# Altium integrated library Linear Technology Power Management Power Control.IntLib: 661 symbols (part 23 of 43)
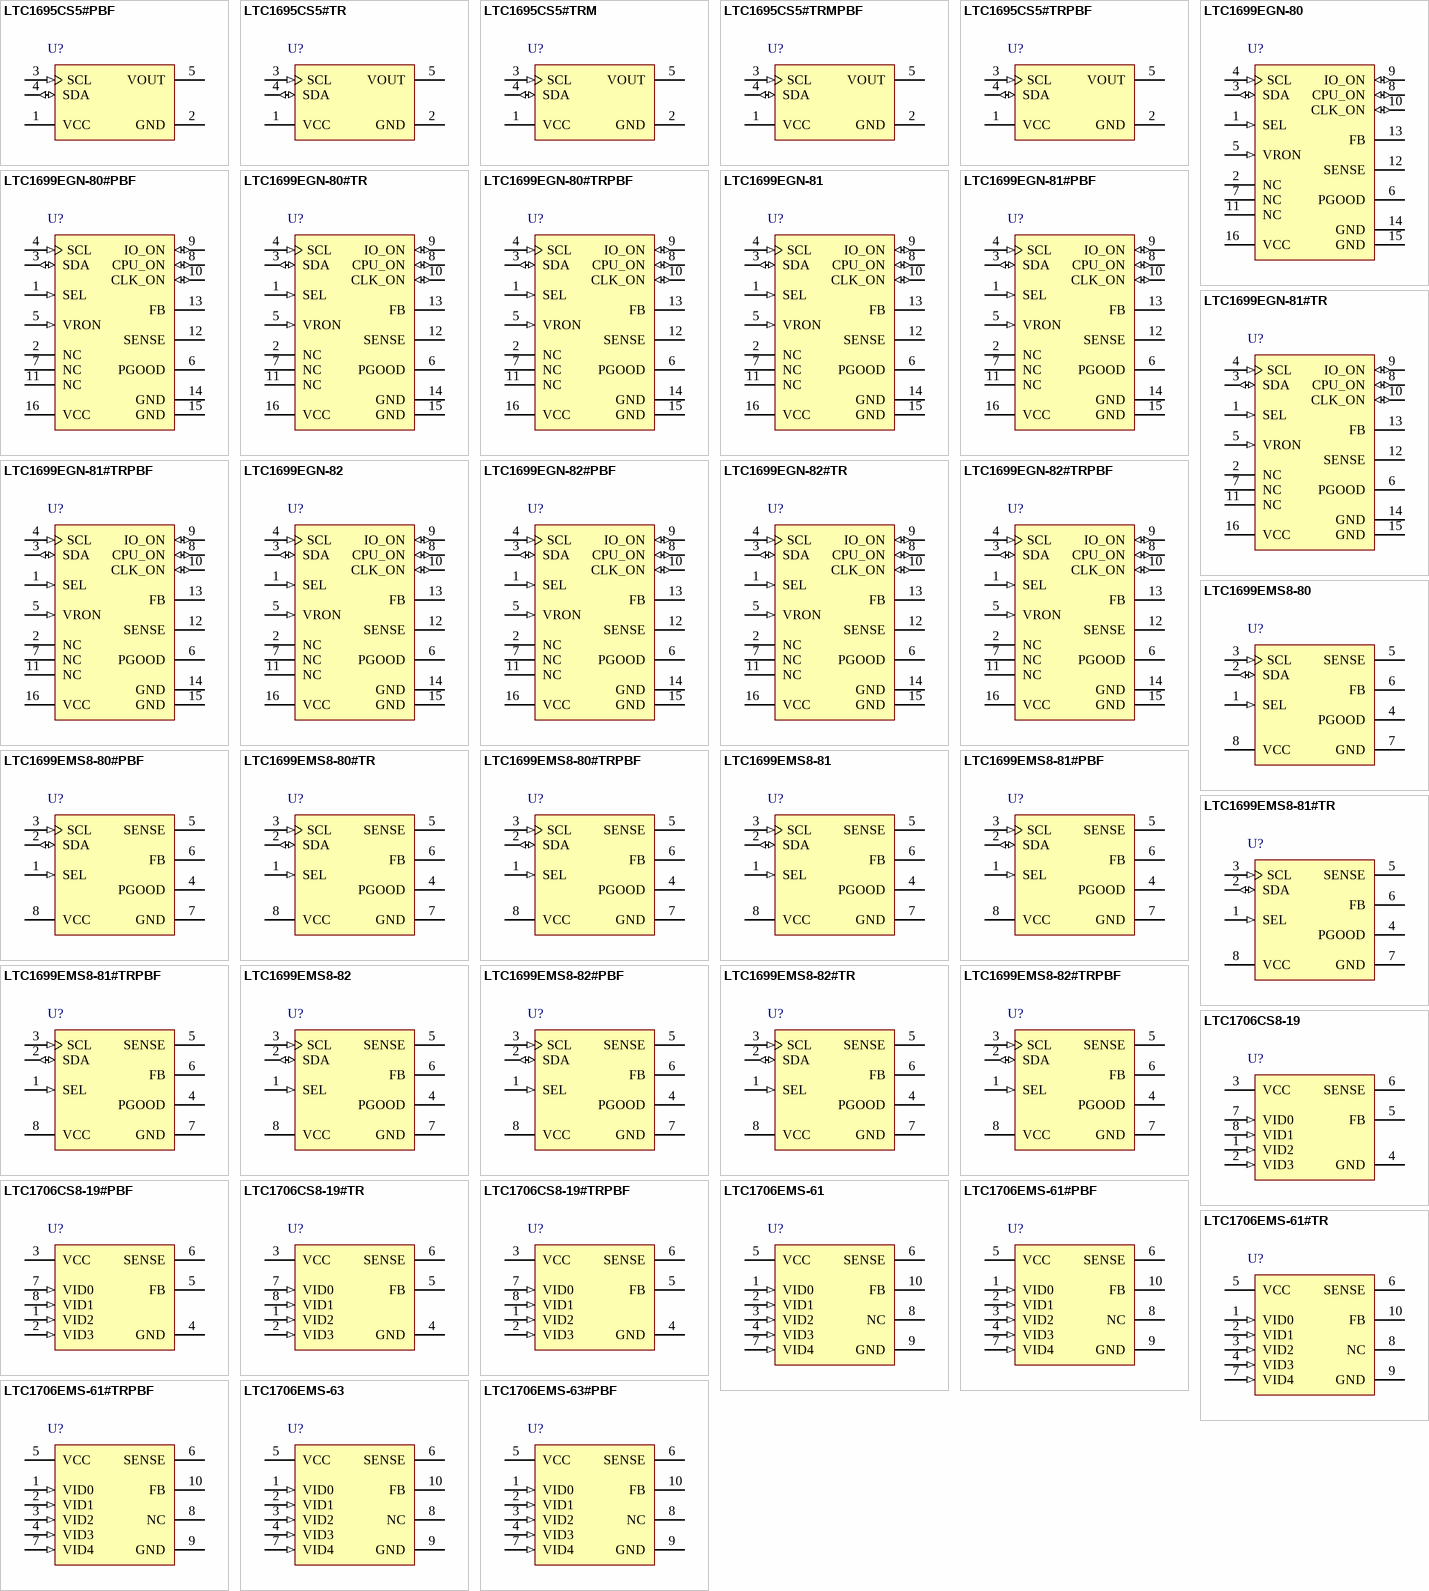
[diagram p41: symbols LTC1695CS5#PBF to LTC1706EMS-63#PBF]

## LTC1699EMS8-80
designator U?
SMBus VID Programmer, 2.7 to 5.5 V Vin, 8-pin SOP (MS8-8), -40 to 85 degC; Manufacturer: Linear Technology; PartNumber: LTC1699EMS8-80; PackageVersion: Rev. G, 03/2012; PackageReference: MS8-8; PackageDescription: 8-Pin Plastic MSOP, Body 3 x 3 mm, Pitch 0.65 mm; Supplier 1: Digi-Key; Supplier Part Number 1: LTC1699EMS8-80-ND; RoHS: FALSE; Mounting Technology: Surface Mount; ComponentLink1Description: Manufacturer URL; ComponentLink1URL: http://www.linear.com/; ComponentLink2Description: Datasheet; ComponentLink2URL: http://cds.linear.com/docs/en/datasheet/1699fs.pdf; ComponentLink3Description: Package Specification; ComponentLink3URL: http://cds.linear.com/docs/en/packaging/05081660_G_MS8.pdf
footprint LT-MS8-8_N (SOP, 8-Leads, Body 3.1x3.1mm, Pitch 0.65mm, IPC Medium Density)
footprint LT-MS8-8_L (SOP, 8-Leads, Body 3.1x3.1mm, Pitch 0.65mm, IPC High Density)
footprint LT-MS8-8_M (SOP, 8-Leads, Body 3.1x3.1mm, Pitch 0.65mm, IPC Low Density)
pins: 1 SEL (in) "Register Select Input. A TTL compatible logic input pin that is used to select 1 of 2 resistor divider settings. SEL selects the setting in Register 0 if pulled low and the setting in Register 1 if pulled high.", 2 SDA (io) "SMBus Data Input/Output. SDA is a high impedance input when address, command or data bits are shifted in. It is an open drain, N-channel output when acknowledging or sending data back to the microprocessor during read-back. (See Datasheet)", 3 SCL (in) "SMBus Clock Input. Data at the SDA pin is latched into the LTC1699 at the rising edge of the clock and is shifted out of the SDA pin at the falling edge of the clock. SCL is a high impedance input pin. It is driven by the (See Datasheet)", 4 PGOOD (hiz) "Power Good Output. This open drain output is pulled low for 50us each time the LTC1699-80, LTC1699-81 or LTC1699-82 turns on the DC/DC converters or SEL is toggled to select a new code. PGOOD may be connected to the FCB (See Datasheet)", 5 SENSE "Sense Input. Upper terminal of the resistor divider that is connected directly to the output voltage being regulated.", 6 FB "Feedback Input. Center tap of the divider that is connected to the feedback pin of an LTC 0.8V referenced DC/DC converter.", 7 GND (power) "Ground. Connect to regulator signal ground.", 8 VCC (power) "Positive Supply. 2.7V <= VCC <= 5.5V. Bypass this pin to ground with a 0.1uF ceramic capacitor."

## LTC1699EMS8-80#PBF
designator U?
SMBus VID Programmer, 2.7 to 5.5 V Vin, 8-pin SOP (MS8-8), -40 to 85 degC, Pb-Free; Manufacturer: Linear Technology; PartNumber: LTC1699EMS8-80#PBF; PackageVersion: Rev. G, 03/2012; PackageReference: MS8-8; PackageDescription: 8-Pin Plastic MSOP, Body 3 x 3 mm, Pitch 0.65 mm; Supplier 1: Digi-Key; Supplier Part Number 1: LTC1699EMS8-80#PBF-ND; RoHS: TRUE; Mounting Technology: Surface Mount; ComponentLink1Description: Manufacturer URL; ComponentLink1URL: http://www.linear.com/; ComponentLink2Description: Datasheet; ComponentLink2URL: http://cds.linear.com/docs/en/datasheet/1699fs.pdf; ComponentLink3Description: Package Specification; ComponentLink3URL: http://cds.linear.com/docs/en/packaging/05081660_G_MS8.pdf
footprint LT-MS8-8_N (SOP, 8-Leads, Body 3.1x3.1mm, Pitch 0.65mm, IPC Medium Density)
footprint LT-MS8-8_L (SOP, 8-Leads, Body 3.1x3.1mm, Pitch 0.65mm, IPC High Density)
footprint LT-MS8-8_M (SOP, 8-Leads, Body 3.1x3.1mm, Pitch 0.65mm, IPC Low Density)
pins: 1 SEL (in) "Register Select Input. A TTL compatible logic input pin that is used to select 1 of 2 resistor divider settings. SEL selects the setting in Register 0 if pulled low and the setting in Register 1 if pulled high.", 2 SDA (io) "SMBus Data Input/Output. SDA is a high impedance input when address, command or data bits are shifted in. It is an open drain, N-channel output when acknowledging or sending data back to the microprocessor during read-back. (See Datasheet)", 3 SCL (in) "SMBus Clock Input. Data at the SDA pin is latched into the LTC1699 at the rising edge of the clock and is shifted out of the SDA pin at the falling edge of the clock. SCL is a high impedance input pin. It is driven by the (See Datasheet)", 4 PGOOD (hiz) "Power Good Output. This open drain output is pulled low for 50us each time the LTC1699-80, LTC1699-81 or LTC1699-82 turns on the DC/DC converters or SEL is toggled to select a new code. PGOOD may be connected to the FCB (See Datasheet)", 5 SENSE "Sense Input. Upper terminal of the resistor divider that is connected directly to the output voltage being regulated.", 6 FB "Feedback Input. Center tap of the divider that is connected to the feedback pin of an LTC 0.8V referenced DC/DC converter.", 7 GND (power) "Ground. Connect to regulator signal ground.", 8 VCC (power) "Positive Supply. 2.7V <= VCC <= 5.5V. Bypass this pin to ground with a 0.1uF ceramic capacitor."

## LTC1699EMS8-80#TR
designator U?
SMBus VID Programmer, 2.7 to 5.5 V Vin, 8-pin SOP (MS8-8), -40 to 85 degC, Tape and Reel; Manufacturer: Linear Technology; PartNumber: LTC1699EMS8-80#TR; PackageVersion: Rev. G, 03/2012; PackageReference: MS8-8; PackageDescription: 8-Pin Plastic MSOP, Body 3 x 3 mm, Pitch 0.65 mm; Supplier 1: Digi-Key; Supplier Part Number 1: LTC1699EMS8-80#TR-ND; Packing: Tape and Reel; RoHS: FALSE; Mounting Technology: Surface Mount; ComponentLink1Description: Manufacturer URL; ComponentLink1URL: http://www.linear.com/; ComponentLink2Description: Datasheet; ComponentLink2URL: http://cds.linear.com/docs/en/datasheet/1699fs.pdf; ComponentLink3Description: Package Specification; ComponentLink3URL: http://cds.linear.com/docs/en/packaging/05081660_G_MS8.pdf
footprint LT-MS8-8_N (SOP, 8-Leads, Body 3.1x3.1mm, Pitch 0.65mm, IPC Medium Density)
footprint LT-MS8-8_L (SOP, 8-Leads, Body 3.1x3.1mm, Pitch 0.65mm, IPC High Density)
footprint LT-MS8-8_M (SOP, 8-Leads, Body 3.1x3.1mm, Pitch 0.65mm, IPC Low Density)
pins: 1 SEL (in) "Register Select Input. A TTL compatible logic input pin that is used to select 1 of 2 resistor divider settings. SEL selects the setting in Register 0 if pulled low and the setting in Register 1 if pulled high.", 2 SDA (io) "SMBus Data Input/Output. SDA is a high impedance input when address, command or data bits are shifted in. It is an open drain, N-channel output when acknowledging or sending data back to the microprocessor during read-back. (See Datasheet)", 3 SCL (in) "SMBus Clock Input. Data at the SDA pin is latched into the LTC1699 at the rising edge of the clock and is shifted out of the SDA pin at the falling edge of the clock. SCL is a high impedance input pin. It is driven by the (See Datasheet)", 4 PGOOD (hiz) "Power Good Output. This open drain output is pulled low for 50us each time the LTC1699-80, LTC1699-81 or LTC1699-82 turns on the DC/DC converters or SEL is toggled to select a new code. PGOOD may be connected to the FCB (See Datasheet)", 5 SENSE "Sense Input. Upper terminal of the resistor divider that is connected directly to the output voltage being regulated.", 6 FB "Feedback Input. Center tap of the divider that is connected to the feedback pin of an LTC 0.8V referenced DC/DC converter.", 7 GND (power) "Ground. Connect to regulator signal ground.", 8 VCC (power) "Positive Supply. 2.7V <= VCC <= 5.5V. Bypass this pin to ground with a 0.1uF ceramic capacitor."

## LTC1699EMS8-80#TRPBF
designator U?
SMBus VID Programmer, 2.7 to 5.5 V Vin, 8-pin SOP (MS8-8), -40 to 85 degC, Pb-Free, Tape and Reel; Manufacturer: Linear Technology; PartNumber: LTC1699EMS8-80#TRPBF; PackageVersion: Rev. G, 03/2012; PackageReference: MS8-8; PackageDescription: 8-Pin Plastic MSOP, Body 3 x 3 mm, Pitch 0.65 mm; Supplier 1: Digi-Key; Supplier Part Number 1: LTC1699EMS8-80#TRPBF-ND; Packing: Tape and Reel; RoHS: TRUE; Mounting Technology: Surface Mount; ComponentLink1Description: Manufacturer URL; ComponentLink1URL: http://www.linear.com/; ComponentLink2Description: Datasheet; ComponentLink2URL: http://cds.linear.com/docs/en/datasheet/1699fs.pdf; ComponentLink3Description: Package Specification; ComponentLink3URL: http://cds.linear.com/docs/en/packaging/05081660_G_MS8.pdf
footprint LT-MS8-8_N (SOP, 8-Leads, Body 3.1x3.1mm, Pitch 0.65mm, IPC Medium Density)
footprint LT-MS8-8_L (SOP, 8-Leads, Body 3.1x3.1mm, Pitch 0.65mm, IPC High Density)
footprint LT-MS8-8_M (SOP, 8-Leads, Body 3.1x3.1mm, Pitch 0.65mm, IPC Low Density)
pins: 1 SEL (in) "Register Select Input. A TTL compatible logic input pin that is used to select 1 of 2 resistor divider settings. SEL selects the setting in Register 0 if pulled low and the setting in Register 1 if pulled high.", 2 SDA (io) "SMBus Data Input/Output. SDA is a high impedance input when address, command or data bits are shifted in. It is an open drain, N-channel output when acknowledging or sending data back to the microprocessor during read-back. (See Datasheet)", 3 SCL (in) "SMBus Clock Input. Data at the SDA pin is latched into the LTC1699 at the rising edge of the clock and is shifted out of the SDA pin at the falling edge of the clock. SCL is a high impedance input pin. It is driven by the (See Datasheet)", 4 PGOOD (hiz) "Power Good Output. This open drain output is pulled low for 50us each time the LTC1699-80, LTC1699-81 or LTC1699-82 turns on the DC/DC converters or SEL is toggled to select a new code. PGOOD may be connected to the FCB (See Datasheet)", 5 SENSE "Sense Input. Upper terminal of the resistor divider that is connected directly to the output voltage being regulated.", 6 FB "Feedback Input. Center tap of the divider that is connected to the feedback pin of an LTC 0.8V referenced DC/DC converter.", 7 GND (power) "Ground. Connect to regulator signal ground.", 8 VCC (power) "Positive Supply. 2.7V <= VCC <= 5.5V. Bypass this pin to ground with a 0.1uF ceramic capacitor."

## LTC1699EMS8-81
designator U?
SMBus VID Programmer, 2.7 to 5.5 V Vin, 8-pin SOP (MS8-8), -40 to 85 degC; Manufacturer: Linear Technology; PartNumber: LTC1699EMS8-81; PackageVersion: Rev. G, 03/2012; PackageReference: MS8-8; PackageDescription: 8-Pin Plastic MSOP, Body 3 x 3 mm, Pitch 0.65 mm; Supplier 1: Digi-Key; Supplier Part Number 1: LTC1699EMS8-81-ND; RoHS: FALSE; Mounting Technology: Surface Mount; ComponentLink1Description: Manufacturer URL; ComponentLink1URL: http://www.linear.com/; ComponentLink2Description: Datasheet; ComponentLink2URL: http://cds.linear.com/docs/en/datasheet/1699fs.pdf; ComponentLink3Description: Package Specification; ComponentLink3URL: http://cds.linear.com/docs/en/packaging/05081660_G_MS8.pdf
footprint LT-MS8-8_N (SOP, 8-Leads, Body 3.1x3.1mm, Pitch 0.65mm, IPC Medium Density)
footprint LT-MS8-8_L (SOP, 8-Leads, Body 3.1x3.1mm, Pitch 0.65mm, IPC High Density)
footprint LT-MS8-8_M (SOP, 8-Leads, Body 3.1x3.1mm, Pitch 0.65mm, IPC Low Density)
pins: 1 SEL (in) "Register Select Input. A TTL compatible logic input pin that is used to select 1 of 2 resistor divider settings. SEL selects the setting in Register 0 if pulled low and the setting in Register 1 if pulled high.", 2 SDA (io) "SMBus Data Input/Output. SDA is a high impedance input when address, command or data bits are shifted in. It is an open drain, N-channel output when acknowledging or sending data back to the microprocessor during read-back. (See Datasheet)", 3 SCL (in) "SMBus Clock Input. Data at the SDA pin is latched into the LTC1699 at the rising edge of the clock and is shifted out of the SDA pin at the falling edge of the clock. SCL is a high impedance input pin. It is driven by the (See Datasheet)", 4 PGOOD (hiz) "Power Good Output. This open drain output is pulled low for 50us each time the LTC1699-80, LTC1699-81 or LTC1699-82 turns on the DC/DC converters or SEL is toggled to select a new code. PGOOD may be connected to the FCB (See Datasheet)", 5 SENSE "Sense Input. Upper terminal of the resistor divider that is connected directly to the output voltage being regulated.", 6 FB "Feedback Input. Center tap of the divider that is connected to the feedback pin of an LTC 0.8V referenced DC/DC converter.", 7 GND (power) "Ground. Connect to regulator signal ground.", 8 VCC (power) "Positive Supply. 2.7V <= VCC <= 5.5V. Bypass this pin to ground with a 0.1uF ceramic capacitor."

## LTC1699EMS8-81#PBF
designator U?
SMBus VID Programmer, 2.7 to 5.5 V Vin, 8-pin SOP (MS8-8), -40 to 85 degC, Pb-Free; Manufacturer: Linear Technology; PartNumber: LTC1699EMS8-81#PBF; PackageVersion: Rev. G, 03/2012; PackageReference: MS8-8; PackageDescription: 8-Pin Plastic MSOP, Body 3 x 3 mm, Pitch 0.65 mm; Supplier 1: Digi-Key; Supplier Part Number 1: LTC1699EMS8-81#PBF-ND; RoHS: TRUE; Mounting Technology: Surface Mount; ComponentLink1Description: Manufacturer URL; ComponentLink1URL: http://www.linear.com/; ComponentLink2Description: Datasheet; ComponentLink2URL: http://cds.linear.com/docs/en/datasheet/1699fs.pdf; ComponentLink3Description: Package Specification; ComponentLink3URL: http://cds.linear.com/docs/en/packaging/05081660_G_MS8.pdf
footprint LT-MS8-8_N (SOP, 8-Leads, Body 3.1x3.1mm, Pitch 0.65mm, IPC Medium Density)
footprint LT-MS8-8_L (SOP, 8-Leads, Body 3.1x3.1mm, Pitch 0.65mm, IPC High Density)
footprint LT-MS8-8_M (SOP, 8-Leads, Body 3.1x3.1mm, Pitch 0.65mm, IPC Low Density)
pins: 1 SEL (in) "Register Select Input. A TTL compatible logic input pin that is used to select 1 of 2 resistor divider settings. SEL selects the setting in Register 0 if pulled low and the setting in Register 1 if pulled high.", 2 SDA (io) "SMBus Data Input/Output. SDA is a high impedance input when address, command or data bits are shifted in. It is an open drain, N-channel output when acknowledging or sending data back to the microprocessor during read-back. (See Datasheet)", 3 SCL (in) "SMBus Clock Input. Data at the SDA pin is latched into the LTC1699 at the rising edge of the clock and is shifted out of the SDA pin at the falling edge of the clock. SCL is a high impedance input pin. It is driven by the (See Datasheet)", 4 PGOOD (hiz) "Power Good Output. This open drain output is pulled low for 50us each time the LTC1699-80, LTC1699-81 or LTC1699-82 turns on the DC/DC converters or SEL is toggled to select a new code. PGOOD may be connected to the FCB (See Datasheet)", 5 SENSE "Sense Input. Upper terminal of the resistor divider that is connected directly to the output voltage being regulated.", 6 FB "Feedback Input. Center tap of the divider that is connected to the feedback pin of an LTC 0.8V referenced DC/DC converter.", 7 GND (power) "Ground. Connect to regulator signal ground.", 8 VCC (power) "Positive Supply. 2.7V <= VCC <= 5.5V. Bypass this pin to ground with a 0.1uF ceramic capacitor."

## LTC1699EMS8-81#TR
designator U?
SMBus VID Programmer, 2.7 to 5.5 V Vin, 8-pin SOP (MS8-8), -40 to 85 degC, Tape and Reel; Manufacturer: Linear Technology; PartNumber: LTC1699EMS8-81#TR; PackageVersion: Rev. G, 03/2012; PackageReference: MS8-8; PackageDescription: 8-Pin Plastic MSOP, Body 3 x 3 mm, Pitch 0.65 mm; Supplier 1: Digi-Key; Supplier Part Number 1: LTC1699EMS8-81#TR-ND; Packing: Tape and Reel; RoHS: FALSE; Mounting Technology: Surface Mount; ComponentLink1Description: Manufacturer URL; ComponentLink1URL: http://www.linear.com/; ComponentLink2Description: Datasheet; ComponentLink2URL: http://cds.linear.com/docs/en/datasheet/1699fs.pdf; ComponentLink3Description: Package Specification; ComponentLink3URL: http://cds.linear.com/docs/en/packaging/05081660_G_MS8.pdf
footprint LT-MS8-8_N (SOP, 8-Leads, Body 3.1x3.1mm, Pitch 0.65mm, IPC Medium Density)
footprint LT-MS8-8_L (SOP, 8-Leads, Body 3.1x3.1mm, Pitch 0.65mm, IPC High Density)
footprint LT-MS8-8_M (SOP, 8-Leads, Body 3.1x3.1mm, Pitch 0.65mm, IPC Low Density)
pins: 1 SEL (in) "Register Select Input. A TTL compatible logic input pin that is used to select 1 of 2 resistor divider settings. SEL selects the setting in Register 0 if pulled low and the setting in Register 1 if pulled high.", 2 SDA (io) "SMBus Data Input/Output. SDA is a high impedance input when address, command or data bits are shifted in. It is an open drain, N-channel output when acknowledging or sending data back to the microprocessor during read-back. (See Datasheet)", 3 SCL (in) "SMBus Clock Input. Data at the SDA pin is latched into the LTC1699 at the rising edge of the clock and is shifted out of the SDA pin at the falling edge of the clock. SCL is a high impedance input pin. It is driven by the (See Datasheet)", 4 PGOOD (hiz) "Power Good Output. This open drain output is pulled low for 50us each time the LTC1699-80, LTC1699-81 or LTC1699-82 turns on the DC/DC converters or SEL is toggled to select a new code. PGOOD may be connected to the FCB (See Datasheet)", 5 SENSE "Sense Input. Upper terminal of the resistor divider that is connected directly to the output voltage being regulated.", 6 FB "Feedback Input. Center tap of the divider that is connected to the feedback pin of an LTC 0.8V referenced DC/DC converter.", 7 GND (power) "Ground. Connect to regulator signal ground.", 8 VCC (power) "Positive Supply. 2.7V <= VCC <= 5.5V. Bypass this pin to ground with a 0.1uF ceramic capacitor."

## LTC1699EMS8-81#TRPBF
designator U?
SMBus VID Programmer, 2.7 to 5.5 V Vin, 8-pin SOP (MS8-8), -40 to 85 degC, Pb-Free, Tape and Reel; Manufacturer: Linear Technology; PartNumber: LTC1699EMS8-81#TRPBF; PackageVersion: Rev. G, 03/2012; PackageReference: MS8-8; PackageDescription: 8-Pin Plastic MSOP, Body 3 x 3 mm, Pitch 0.65 mm; Supplier 1: Digi-Key; Supplier Part Number 1: LTC1699EMS8-81#TRPBF-ND; Packing: Tape and Reel; RoHS: TRUE; Mounting Technology: Surface Mount; ComponentLink1Description: Manufacturer URL; ComponentLink1URL: http://www.linear.com/; ComponentLink2Description: Datasheet; ComponentLink2URL: http://cds.linear.com/docs/en/datasheet/1699fs.pdf; ComponentLink3Description: Package Specification; ComponentLink3URL: http://cds.linear.com/docs/en/packaging/05081660_G_MS8.pdf
footprint LT-MS8-8_N (SOP, 8-Leads, Body 3.1x3.1mm, Pitch 0.65mm, IPC Medium Density)
footprint LT-MS8-8_L (SOP, 8-Leads, Body 3.1x3.1mm, Pitch 0.65mm, IPC High Density)
footprint LT-MS8-8_M (SOP, 8-Leads, Body 3.1x3.1mm, Pitch 0.65mm, IPC Low Density)
pins: 1 SEL (in) "Register Select Input. A TTL compatible logic input pin that is used to select 1 of 2 resistor divider settings. SEL selects the setting in Register 0 if pulled low and the setting in Register 1 if pulled high.", 2 SDA (io) "SMBus Data Input/Output. SDA is a high impedance input when address, command or data bits are shifted in. It is an open drain, N-channel output when acknowledging or sending data back to the microprocessor during read-back. (See Datasheet)", 3 SCL (in) "SMBus Clock Input. Data at the SDA pin is latched into the LTC1699 at the rising edge of the clock and is shifted out of the SDA pin at the falling edge of the clock. SCL is a high impedance input pin. It is driven by the (See Datasheet)", 4 PGOOD (hiz) "Power Good Output. This open drain output is pulled low for 50us each time the LTC1699-80, LTC1699-81 or LTC1699-82 turns on the DC/DC converters or SEL is toggled to select a new code. PGOOD may be connected to the FCB (See Datasheet)", 5 SENSE "Sense Input. Upper terminal of the resistor divider that is connected directly to the output voltage being regulated.", 6 FB "Feedback Input. Center tap of the divider that is connected to the feedback pin of an LTC 0.8V referenced DC/DC converter.", 7 GND (power) "Ground. Connect to regulator signal ground.", 8 VCC (power) "Positive Supply. 2.7V <= VCC <= 5.5V. Bypass this pin to ground with a 0.1uF ceramic capacitor."

## LTC1699EMS8-82
designator U?
SMBus VID Programmer, 2.7 to 5.5 V Vin, 8-pin SOP (MS8-8), -40 to 85 degC; Manufacturer: Linear Technology; PartNumber: LTC1699EMS8-82; PackageVersion: Rev. G, 03/2012; PackageReference: MS8-8; PackageDescription: 8-Pin Plastic MSOP, Body 3 x 3 mm, Pitch 0.65 mm; Supplier 1: Digi-Key; Supplier Part Number 1: LTC1699EMS8-82-ND; RoHS: FALSE; Mounting Technology: Surface Mount; ComponentLink1Description: Manufacturer URL; ComponentLink1URL: http://www.linear.com/; ComponentLink2Description: Datasheet; ComponentLink2URL: http://cds.linear.com/docs/en/datasheet/1699fs.pdf; ComponentLink3Description: Package Specification; ComponentLink3URL: http://cds.linear.com/docs/en/packaging/05081660_G_MS8.pdf
footprint LT-MS8-8_N (SOP, 8-Leads, Body 3.1x3.1mm, Pitch 0.65mm, IPC Medium Density)
footprint LT-MS8-8_L (SOP, 8-Leads, Body 3.1x3.1mm, Pitch 0.65mm, IPC High Density)
footprint LT-MS8-8_M (SOP, 8-Leads, Body 3.1x3.1mm, Pitch 0.65mm, IPC Low Density)
pins: 1 SEL (in) "Register Select Input. A TTL compatible logic input pin that is used to select 1 of 2 resistor divider settings. SEL selects the setting in Register 0 if pulled low and the setting in Register 1 if pulled high.", 2 SDA (io) "SMBus Data Input/Output. SDA is a high impedance input when address, command or data bits are shifted in. It is an open drain, N-channel output when acknowledging or sending data back to the microprocessor during read-back. (See Datasheet)", 3 SCL (in) "SMBus Clock Input. Data at the SDA pin is latched into the LTC1699 at the rising edge of the clock and is shifted out of the SDA pin at the falling edge of the clock. SCL is a high impedance input pin. It is driven by the (See Datasheet)", 4 PGOOD (hiz) "Power Good Output. This open drain output is pulled low for 50us each time the LTC1699-80, LTC1699-81 or LTC1699-82 turns on the DC/DC converters or SEL is toggled to select a new code. PGOOD may be connected to the FCB (See Datasheet)", 5 SENSE "Sense Input. Upper terminal of the resistor divider that is connected directly to the output voltage being regulated.", 6 FB "Feedback Input. Center tap of the divider that is connected to the feedback pin of an LTC 0.8V referenced DC/DC converter.", 7 GND (power) "Ground. Connect to regulator signal ground.", 8 VCC (power) "Positive Supply. 2.7V <= VCC <= 5.5V. Bypass this pin to ground with a 0.1uF ceramic capacitor."

## LTC1699EMS8-82#PBF
designator U?
SMBus VID Programmer, 2.7 to 5.5 V Vin, 8-pin SOP (MS8-8), -40 to 85 degC, Pb-Free; Manufacturer: Linear Technology; PartNumber: LTC1699EMS8-82#PBF; PackageVersion: Rev. G, 03/2012; PackageReference: MS8-8; PackageDescription: 8-Pin Plastic MSOP, Body 3 x 3 mm, Pitch 0.65 mm; Supplier 1: Digi-Key; Supplier Part Number 1: LTC1699EMS8-82#PBF-ND; RoHS: TRUE; Mounting Technology: Surface Mount; ComponentLink1Description: Manufacturer URL; ComponentLink1URL: http://www.linear.com/; ComponentLink2Description: Datasheet; ComponentLink2URL: http://cds.linear.com/docs/en/datasheet/1699fs.pdf; ComponentLink3Description: Package Specification; ComponentLink3URL: http://cds.linear.com/docs/en/packaging/05081660_G_MS8.pdf
footprint LT-MS8-8_N (SOP, 8-Leads, Body 3.1x3.1mm, Pitch 0.65mm, IPC Medium Density)
footprint LT-MS8-8_L (SOP, 8-Leads, Body 3.1x3.1mm, Pitch 0.65mm, IPC High Density)
footprint LT-MS8-8_M (SOP, 8-Leads, Body 3.1x3.1mm, Pitch 0.65mm, IPC Low Density)
pins: 1 SEL (in) "Register Select Input. A TTL compatible logic input pin that is used to select 1 of 2 resistor divider settings. SEL selects the setting in Register 0 if pulled low and the setting in Register 1 if pulled high.", 2 SDA (io) "SMBus Data Input/Output. SDA is a high impedance input when address, command or data bits are shifted in. It is an open drain, N-channel output when acknowledging or sending data back to the microprocessor during read-back. (See Datasheet)", 3 SCL (in) "SMBus Clock Input. Data at the SDA pin is latched into the LTC1699 at the rising edge of the clock and is shifted out of the SDA pin at the falling edge of the clock. SCL is a high impedance input pin. It is driven by the (See Datasheet)", 4 PGOOD (hiz) "Power Good Output. This open drain output is pulled low for 50us each time the LTC1699-80, LTC1699-81 or LTC1699-82 turns on the DC/DC converters or SEL is toggled to select a new code. PGOOD may be connected to the FCB (See Datasheet)", 5 SENSE "Sense Input. Upper terminal of the resistor divider that is connected directly to the output voltage being regulated.", 6 FB "Feedback Input. Center tap of the divider that is connected to the feedback pin of an LTC 0.8V referenced DC/DC converter.", 7 GND (power) "Ground. Connect to regulator signal ground.", 8 VCC (power) "Positive Supply. 2.7V <= VCC <= 5.5V. Bypass this pin to ground with a 0.1uF ceramic capacitor."

## LTC1699EMS8-82#TR
designator U?
SMBus VID Programmer, 2.7 to 5.5 V Vin, 8-pin SOP (MS8-8), -40 to 85 degC, Tape and Reel; Manufacturer: Linear Technology; PartNumber: LTC1699EMS8-82#TR; PackageVersion: Rev. G, 03/2012; PackageReference: MS8-8; PackageDescription: 8-Pin Plastic MSOP, Body 3 x 3 mm, Pitch 0.65 mm; Supplier 1: Digi-Key; Supplier Part Number 1: LTC1699EMS8-82#TR-ND; Packing: Tape and Reel; RoHS: FALSE; Mounting Technology: Surface Mount; ComponentLink1Description: Manufacturer URL; ComponentLink1URL: http://www.linear.com/; ComponentLink2Description: Datasheet; ComponentLink2URL: http://cds.linear.com/docs/en/datasheet/1699fs.pdf; ComponentLink3Description: Package Specification; ComponentLink3URL: http://cds.linear.com/docs/en/packaging/05081660_G_MS8.pdf
footprint LT-MS8-8_N (SOP, 8-Leads, Body 3.1x3.1mm, Pitch 0.65mm, IPC Medium Density)
footprint LT-MS8-8_L (SOP, 8-Leads, Body 3.1x3.1mm, Pitch 0.65mm, IPC High Density)
footprint LT-MS8-8_M (SOP, 8-Leads, Body 3.1x3.1mm, Pitch 0.65mm, IPC Low Density)
pins: 1 SEL (in) "Register Select Input. A TTL compatible logic input pin that is used to select 1 of 2 resistor divider settings. SEL selects the setting in Register 0 if pulled low and the setting in Register 1 if pulled high.", 2 SDA (io) "SMBus Data Input/Output. SDA is a high impedance input when address, command or data bits are shifted in. It is an open drain, N-channel output when acknowledging or sending data back to the microprocessor during read-back. (See Datasheet)", 3 SCL (in) "SMBus Clock Input. Data at the SDA pin is latched into the LTC1699 at the rising edge of the clock and is shifted out of the SDA pin at the falling edge of the clock. SCL is a high impedance input pin. It is driven by the (See Datasheet)", 4 PGOOD (hiz) "Power Good Output. This open drain output is pulled low for 50us each time the LTC1699-80, LTC1699-81 or LTC1699-82 turns on the DC/DC converters or SEL is toggled to select a new code. PGOOD may be connected to the FCB (See Datasheet)", 5 SENSE "Sense Input. Upper terminal of the resistor divider that is connected directly to the output voltage being regulated.", 6 FB "Feedback Input. Center tap of the divider that is connected to the feedback pin of an LTC 0.8V referenced DC/DC converter.", 7 GND (power) "Ground. Connect to regulator signal ground.", 8 VCC (power) "Positive Supply. 2.7V <= VCC <= 5.5V. Bypass this pin to ground with a 0.1uF ceramic capacitor."

## LTC1699EMS8-82#TRPBF
designator U?
SMBus VID Programmer, 2.7 to 5.5 V Vin, 8-pin SOP (MS8-8), -40 to 85 degC, Pb-Free, Tape and Reel; Manufacturer: Linear Technology; PartNumber: LTC1699EMS8-82#TRPBF; PackageVersion: Rev. G, 03/2012; PackageReference: MS8-8; PackageDescription: 8-Pin Plastic MSOP, Body 3 x 3 mm, Pitch 0.65 mm; Supplier 1: Digi-Key; Supplier Part Number 1: LTC1699EMS8-82#TRPBF-ND; Packing: Tape and Reel; RoHS: TRUE; Mounting Technology: Surface Mount; ComponentLink1Description: Manufacturer URL; ComponentLink1URL: http://www.linear.com/; ComponentLink2Description: Datasheet; ComponentLink2URL: http://cds.linear.com/docs/en/datasheet/1699fs.pdf; ComponentLink3Description: Package Specification; ComponentLink3URL: http://cds.linear.com/docs/en/packaging/05081660_G_MS8.pdf
footprint LT-MS8-8_N (SOP, 8-Leads, Body 3.1x3.1mm, Pitch 0.65mm, IPC Medium Density)
footprint LT-MS8-8_L (SOP, 8-Leads, Body 3.1x3.1mm, Pitch 0.65mm, IPC High Density)
footprint LT-MS8-8_M (SOP, 8-Leads, Body 3.1x3.1mm, Pitch 0.65mm, IPC Low Density)
pins: 1 SEL (in) "Register Select Input. A TTL compatible logic input pin that is used to select 1 of 2 resistor divider settings. SEL selects the setting in Register 0 if pulled low and the setting in Register 1 if pulled high.", 2 SDA (io) "SMBus Data Input/Output. SDA is a high impedance input when address, command or data bits are shifted in. It is an open drain, N-channel output when acknowledging or sending data back to the microprocessor during read-back. (See Datasheet)", 3 SCL (in) "SMBus Clock Input. Data at the SDA pin is latched into the LTC1699 at the rising edge of the clock and is shifted out of the SDA pin at the falling edge of the clock. SCL is a high impedance input pin. It is driven by the (See Datasheet)", 4 PGOOD (hiz) "Power Good Output. This open drain output is pulled low for 50us each time the LTC1699-80, LTC1699-81 or LTC1699-82 turns on the DC/DC converters or SEL is toggled to select a new code. PGOOD may be connected to the FCB (See Datasheet)", 5 SENSE "Sense Input. Upper terminal of the resistor divider that is connected directly to the output voltage being regulated.", 6 FB "Feedback Input. Center tap of the divider that is connected to the feedback pin of an LTC 0.8V referenced DC/DC converter.", 7 GND (power) "Ground. Connect to regulator signal ground.", 8 VCC (power) "Positive Supply. 2.7V <= VCC <= 5.5V. Bypass this pin to ground with a 0.1uF ceramic capacitor."

## LTC1706CS8-19
designator U?
VID Programmer, 2.7 to 5.5 V Vin, 8-pin SOIC (S8-8), 0 to 70 degC; Manufacturer: Linear Technology; PartNumber: LTC1706CS8-19; PackageVersion: Rev. G, 03/2012; PackageReference: S8-8; PackageDescription: 8-Pin Plastic Small Outline (Narrow .150 Inch), Body 4.9 x 3.9 mm, Pitch 1.27 mm; Supplier 1: Digi-Key; Supplier Part Number 1: LTC1706CS8-19-ND; RoHS: FALSE; Mounting Technology: Surface Mount; ComponentLink1Description: Manufacturer URL; ComponentLink1URL: http://www.linear.com/; ComponentLink2Description: Datasheet; ComponentLink2URL: http://cds.linear.com/docs/en/datasheet/170619f.pdf; ComponentLink3Description: Package Specification; ComponentLink3URL: http://cds.linear.com/docs/en/packaging/05081610_G_SO8.pdf
footprint LT-S8-8_N (SOIC, 8-Leads, Body 5x4mm, Pitch 1.27mm, IPC Medium Density)
footprint LT-S8-8_L (SOIC, 8-Leads, Body 5x4mm, Pitch 1.27mm, IPC High Density)
footprint LT-S8-8_M (SOIC, 8-Leads, Body 5x4mm, Pitch 1.27mm, IPC Low Density)
pins: 1 VID2 (in) "2nd MSB Programming Input. Low = GND, High = VCC or Float. Grounding VID2 adds 200mV to the output sense voltage.", 2 VID3 (in) "1st MSB Programming Input. Low = GND, High = VCC or Float. Grounding VID3 adds 400mV to the output sense voltage.", 3 VCC (power) "Power Supply Voltage. Range from 2.7V to 5.5V.", 4 GND (power) "Ground. Connect to regulator signal ground.", 5 FB "Feedback Input. Connect to the 1.19V feedback pin of a compatible regulator.", 6 SENSE "Regulator Output Voltage. Connect directly to regulator output sense node.", 7 VID0 (in) "LSB Programming Input. Low = GND, High = VCC or Float. Grounding VID0 adds 50mV to the output sense voltage.", 8 VID1 (in) "3rd MSB Programming Input. Low = GND, High = VCC or Float. Grounding VID1 adds 100mV to the output sense voltage."

## LTC1706CS8-19#PBF
designator U?
VID Programmer, 2.7 to 5.5 V Vin, 8-pin SOIC (S8-8), 0 to 70 degC, Pb-Free; Manufacturer: Linear Technology; PartNumber: LTC1706CS8-19#PBF; PackageVersion: Rev. G, 03/2012; PackageReference: S8-8; PackageDescription: 8-Pin Plastic Small Outline (Narrow .150 Inch), Body 4.9 x 3.9 mm, Pitch 1.27 mm; Supplier 1: Digi-Key; Supplier Part Number 1: LTC1706CS8-19#PBF-ND; RoHS: TRUE; Mounting Technology: Surface Mount; ComponentLink1Description: Manufacturer URL; ComponentLink1URL: http://www.linear.com/; ComponentLink2Description: Datasheet; ComponentLink2URL: http://cds.linear.com/docs/en/datasheet/170619f.pdf; ComponentLink3Description: Package Specification; ComponentLink3URL: http://cds.linear.com/docs/en/packaging/05081610_G_SO8.pdf
footprint LT-S8-8_N (SOIC, 8-Leads, Body 5x4mm, Pitch 1.27mm, IPC Medium Density)
footprint LT-S8-8_L (SOIC, 8-Leads, Body 5x4mm, Pitch 1.27mm, IPC High Density)
footprint LT-S8-8_M (SOIC, 8-Leads, Body 5x4mm, Pitch 1.27mm, IPC Low Density)
pins: 1 VID2 (in) "2nd MSB Programming Input. Low = GND, High = VCC or Float. Grounding VID2 adds 200mV to the output sense voltage.", 2 VID3 (in) "1st MSB Programming Input. Low = GND, High = VCC or Float. Grounding VID3 adds 400mV to the output sense voltage.", 3 VCC (power) "Power Supply Voltage. Range from 2.7V to 5.5V.", 4 GND (power) "Ground. Connect to regulator signal ground.", 5 FB "Feedback Input. Connect to the 1.19V feedback pin of a compatible regulator.", 6 SENSE "Regulator Output Voltage. Connect directly to regulator output sense node.", 7 VID0 (in) "LSB Programming Input. Low = GND, High = VCC or Float. Grounding VID0 adds 50mV to the output sense voltage.", 8 VID1 (in) "3rd MSB Programming Input. Low = GND, High = VCC or Float. Grounding VID1 adds 100mV to the output sense voltage."

## LTC1706CS8-19#TR
designator U?
VID Programmer, 2.7 to 5.5 V Vin, 8-pin SOIC (S8-8), 0 to 70 degC, Tape and Reel; Manufacturer: Linear Technology; PartNumber: LTC1706CS8-19#TR; PackageVersion: Rev. G, 03/2012; PackageReference: S8-8; PackageDescription: 8-Pin Plastic Small Outline (Narrow .150 Inch), Body 4.9 x 3.9 mm, Pitch 1.27 mm; Supplier 1: Digi-Key; Supplier Part Number 1: LTC1706CS8-19#TR-ND; Packing: Tape and Reel; RoHS: FALSE; Mounting Technology: Surface Mount; ComponentLink1Description: Manufacturer URL; ComponentLink1URL: http://www.linear.com/; ComponentLink2Description: Datasheet; ComponentLink2URL: http://cds.linear.com/docs/en/datasheet/170619f.pdf; ComponentLink3Description: Package Specification; ComponentLink3URL: http://cds.linear.com/docs/en/packaging/05081610_G_SO8.pdf
footprint LT-S8-8_N (SOIC, 8-Leads, Body 5x4mm, Pitch 1.27mm, IPC Medium Density)
footprint LT-S8-8_L (SOIC, 8-Leads, Body 5x4mm, Pitch 1.27mm, IPC High Density)
footprint LT-S8-8_M (SOIC, 8-Leads, Body 5x4mm, Pitch 1.27mm, IPC Low Density)
pins: 1 VID2 (in) "2nd MSB Programming Input. Low = GND, High = VCC or Float. Grounding VID2 adds 200mV to the output sense voltage.", 2 VID3 (in) "1st MSB Programming Input. Low = GND, High = VCC or Float. Grounding VID3 adds 400mV to the output sense voltage.", 3 VCC (power) "Power Supply Voltage. Range from 2.7V to 5.5V.", 4 GND (power) "Ground. Connect to regulator signal ground.", 5 FB "Feedback Input. Connect to the 1.19V feedback pin of a compatible regulator.", 6 SENSE "Regulator Output Voltage. Connect directly to regulator output sense node.", 7 VID0 (in) "LSB Programming Input. Low = GND, High = VCC or Float. Grounding VID0 adds 50mV to the output sense voltage.", 8 VID1 (in) "3rd MSB Programming Input. Low = GND, High = VCC or Float. Grounding VID1 adds 100mV to the output sense voltage."

## LTC1706CS8-19#TRPBF
designator U?
VID Programmer, 2.7 to 5.5 V Vin, 8-pin SOIC (S8-8), 0 to 70 degC, Pb-Free, Tape and Reel; Manufacturer: Linear Technology; PartNumber: LTC1706CS8-19#TRPBF; PackageVersion: Rev. G, 03/2012; PackageReference: S8-8; PackageDescription: 8-Pin Plastic Small Outline (Narrow .150 Inch), Body 4.9 x 3.9 mm, Pitch 1.27 mm; Supplier 1: Digi-Key; Supplier Part Number 1: LTC1706CS8-19#TRPBF-ND; Packing: Tape and Reel; RoHS: TRUE; Mounting Technology: Surface Mount; ComponentLink1Description: Manufacturer URL; ComponentLink1URL: http://www.linear.com/; ComponentLink2Description: Datasheet; ComponentLink2URL: http://cds.linear.com/docs/en/datasheet/170619f.pdf; ComponentLink3Description: Package Specification; ComponentLink3URL: http://cds.linear.com/docs/en/packaging/05081610_G_SO8.pdf
footprint LT-S8-8_N (SOIC, 8-Leads, Body 5x4mm, Pitch 1.27mm, IPC Medium Density)
footprint LT-S8-8_L (SOIC, 8-Leads, Body 5x4mm, Pitch 1.27mm, IPC High Density)
footprint LT-S8-8_M (SOIC, 8-Leads, Body 5x4mm, Pitch 1.27mm, IPC Low Density)
pins: 1 VID2 (in) "2nd MSB Programming Input. Low = GND, High = VCC or Float. Grounding VID2 adds 200mV to the output sense voltage.", 2 VID3 (in) "1st MSB Programming Input. Low = GND, High = VCC or Float. Grounding VID3 adds 400mV to the output sense voltage.", 3 VCC (power) "Power Supply Voltage. Range from 2.7V to 5.5V.", 4 GND (power) "Ground. Connect to regulator signal ground.", 5 FB "Feedback Input. Connect to the 1.19V feedback pin of a compatible regulator.", 6 SENSE "Regulator Output Voltage. Connect directly to regulator output sense node.", 7 VID0 (in) "LSB Programming Input. Low = GND, High = VCC or Float. Grounding VID0 adds 50mV to the output sense voltage.", 8 VID1 (in) "3rd MSB Programming Input. Low = GND, High = VCC or Float. Grounding VID1 adds 100mV to the output sense voltage."

## LTC1706EMS-61
designator U?
VID Programmer, 2.7 to 5.5 V Vin, 10-pin SOP (MS-10), -40 to 85 degC; Manufacturer: Linear Technology; PartNumber: LTC1706EMS-61; PackageVersion: Rev. E, 06/2010; PackageReference: MS-10; PackageDescription: 10-Pin Plastic MSOP, Body 3 x 3 mm, Pitch 0.5 mm; Supplier 1: Digi-Key; Supplier Part Number 1: LTC1706EMS-61-ND; RoHS: FALSE; Mounting Technology: Surface Mount; ComponentLink1Description: Manufacturer URL; ComponentLink1URL: http://www.linear.com/; ComponentLink2Description: Datasheet; ComponentLink2URL: http://cds.linear.com/docs/en/datasheet/170661f.pdf; ComponentLink3Description: Package Specification; ComponentLink3URL: http://cds.linear.com/docs/en/packaging/05081661_F_MS.pdf
footprint LT-MS-10_N (SOP, 10-Leads, Body 3.1x3.1mm, Pitch 0.5mm, IPC Medium Density)
footprint LT-MS-10_L (SOP, 10-Leads, Body 3.1x3.1mm, Pitch 0.5mm, IPC High Density)
footprint LT-MS-10_M (SOP, 10-Leads, Body 3.1x3.1mm, Pitch 0.5mm, IPC Low Density)
pins: 1 VID0 (in), 2 VID1 (in), 3 VID2 (in), 4 VID3 (in), 5 VCC (power) "Power Supply Voltage. Range from 2.7V to 5.5V.", 6 SENSE "Regulator Output Voltage. Connect directly to regulator output sense node.", 7 VID4 (in), 8 NC "No Connect", 9 GND (power) "Ground. Connect to regulator signal ground", 10 FB "Feedback Input."

## LTC1706EMS-61#PBF
designator U?
VID Programmer, 2.7 to 5.5 V Vin, 10-pin SOP (MS-10), -40 to 85 degC, Pb-Free; Manufacturer: Linear Technology; PartNumber: LTC1706EMS-61#PBF; PackageVersion: Rev. E, 06/2010; PackageReference: MS-10; PackageDescription: 10-Pin Plastic MSOP, Body 3 x 3 mm, Pitch 0.5 mm; Supplier 1: Digi-Key; Supplier Part Number 1: LTC1706EMS-61#PBF-ND; RoHS: TRUE; Mounting Technology: Surface Mount; ComponentLink1Description: Manufacturer URL; ComponentLink1URL: http://www.linear.com/; ComponentLink2Description: Datasheet; ComponentLink2URL: http://cds.linear.com/docs/en/datasheet/170661f.pdf; ComponentLink3Description: Package Specification; ComponentLink3URL: http://cds.linear.com/docs/en/packaging/05081661_F_MS.pdf
footprint LT-MS-10_N (SOP, 10-Leads, Body 3.1x3.1mm, Pitch 0.5mm, IPC Medium Density)
footprint LT-MS-10_L (SOP, 10-Leads, Body 3.1x3.1mm, Pitch 0.5mm, IPC High Density)
footprint LT-MS-10_M (SOP, 10-Leads, Body 3.1x3.1mm, Pitch 0.5mm, IPC Low Density)
pins: 1 VID0 (in), 2 VID1 (in), 3 VID2 (in), 4 VID3 (in), 5 VCC (power) "Power Supply Voltage. Range from 2.7V to 5.5V.", 6 SENSE "Regulator Output Voltage. Connect directly to regulator output sense node.", 7 VID4 (in), 8 NC "No Connect", 9 GND (power) "Ground. Connect to regulator signal ground", 10 FB "Feedback Input."

## LTC1706EMS-61#TR
designator U?
VID Programmer, 2.7 to 5.5 V Vin, 10-pin SOP (MS-10), -40 to 85 degC, Tape and Reel; Manufacturer: Linear Technology; PartNumber: LTC1706EMS-61#TR; PackageVersion: Rev. E, 06/2010; PackageReference: MS-10; PackageDescription: 10-Pin Plastic MSOP, Body 3 x 3 mm, Pitch 0.5 mm; Supplier 1: Digi-Key; Supplier Part Number 1: LTC1706EMS-61#TR-ND; Packing: Tape and Reel; RoHS: FALSE; Mounting Technology: Surface Mount; ComponentLink1Description: Manufacturer URL; ComponentLink1URL: http://www.linear.com/; ComponentLink2Description: Datasheet; ComponentLink2URL: http://cds.linear.com/docs/en/datasheet/170661f.pdf; ComponentLink3Description: Package Specification; ComponentLink3URL: http://cds.linear.com/docs/en/packaging/05081661_F_MS.pdf
footprint LT-MS-10_N (SOP, 10-Leads, Body 3.1x3.1mm, Pitch 0.5mm, IPC Medium Density)
footprint LT-MS-10_L (SOP, 10-Leads, Body 3.1x3.1mm, Pitch 0.5mm, IPC High Density)
footprint LT-MS-10_M (SOP, 10-Leads, Body 3.1x3.1mm, Pitch 0.5mm, IPC Low Density)
pins: 1 VID0 (in), 2 VID1 (in), 3 VID2 (in), 4 VID3 (in), 5 VCC (power) "Power Supply Voltage. Range from 2.7V to 5.5V.", 6 SENSE "Regulator Output Voltage. Connect directly to regulator output sense node.", 7 VID4 (in), 8 NC "No Connect", 9 GND (power) "Ground. Connect to regulator signal ground", 10 FB "Feedback Input."

## LTC1706EMS-61#TRPBF
designator U?
VID Programmer, 2.7 to 5.5 V Vin, 10-pin SOP (MS-10), -40 to 85 degC, Pb-Free, Tape and Reel; Manufacturer: Linear Technology; PartNumber: LTC1706EMS-61#TRPBF; PackageVersion: Rev. E, 06/2010; PackageReference: MS-10; PackageDescription: 10-Pin Plastic MSOP, Body 3 x 3 mm, Pitch 0.5 mm; Supplier 1: Digi-Key; Supplier Part Number 1: LTC1706EMS-61#TRPBF-ND; Packing: Tape and Reel; RoHS: TRUE; Mounting Technology: Surface Mount; ComponentLink1Description: Manufacturer URL; ComponentLink1URL: http://www.linear.com/; ComponentLink2Description: Datasheet; ComponentLink2URL: http://cds.linear.com/docs/en/datasheet/170661f.pdf; ComponentLink3Description: Package Specification; ComponentLink3URL: http://cds.linear.com/docs/en/packaging/05081661_F_MS.pdf
footprint LT-MS-10_N (SOP, 10-Leads, Body 3.1x3.1mm, Pitch 0.5mm, IPC Medium Density)
footprint LT-MS-10_L (SOP, 10-Leads, Body 3.1x3.1mm, Pitch 0.5mm, IPC High Density)
footprint LT-MS-10_M (SOP, 10-Leads, Body 3.1x3.1mm, Pitch 0.5mm, IPC Low Density)
pins: 1 VID0 (in), 2 VID1 (in), 3 VID2 (in), 4 VID3 (in), 5 VCC (power) "Power Supply Voltage. Range from 2.7V to 5.5V.", 6 SENSE "Regulator Output Voltage. Connect directly to regulator output sense node.", 7 VID4 (in), 8 NC "No Connect", 9 GND (power) "Ground. Connect to regulator signal ground", 10 FB "Feedback Input."

## LTC1706EMS-63
designator U?
5-Bit VID Voltage Programmer for Sun CPUs, 2.7 to 5.5 V Vin, 10-pin SOP (MS-10), -40 to 85 degC; Manufacturer: Linear Technology; PartNumber: LTC1706EMS-63; PackageVersion: Rev. E, 06/2010; PackageReference: MS-10; PackageDescription: 10-Pin Plastic MSOP, Body 3 x 3 mm, Pitch 0.5 mm; RoHS: FALSE; Mounting Technology: Surface Mount; ComponentLink1Description: Manufacturer URL; ComponentLink1URL: http://www.linear.com/; ComponentLink2Description: Datasheet; ComponentLink2URL: http://cds.linear.com/docs/en/datasheet/170663f.pdf; ComponentLink3Description: Package Specification; ComponentLink3URL: http://cds.linear.com/docs/en/packaging/05081661_F_MS.pdf
footprint LT-MS-10_N (SOP, 10-Leads, Body 3.1x3.1mm, Pitch 0.5mm, IPC Medium Density)
footprint LT-MS-10_L (SOP, 10-Leads, Body 3.1x3.1mm, Pitch 0.5mm, IPC High Density)
footprint LT-MS-10_M (SOP, 10-Leads, Body 3.1x3.1mm, Pitch 0.5mm, IPC Low Density)
pins: 1 VID0 (in), 2 VID1 (in), 3 VID2 (in), 4 VID3 (in), 5 VCC (power) "Power Supply Voltage. Range from 2.7V to 5.5V.", 6 SENSE "Regulator Output Voltage. Connect directly to regulator output sense node.", 7 VID4 (in), 8 NC "No Connect", 9 GND (power) "Ground. Connect to regulator signal ground", 10 FB "Feedback Input."

## LTC1706EMS-63#PBF
designator U?
5-Bit VID Voltage Programmer for Sun CPUs, 2.7 to 5.5 V Vin, 10-pin SOP (MS-10), -40 to 85 degC, Pb-Free; Manufacturer: Linear Technology; PartNumber: LTC1706EMS-63#PBF; PackageVersion: Rev. E, 06/2010; PackageReference: MS-10; PackageDescription: 10-Pin Plastic MSOP, Body 3 x 3 mm, Pitch 0.5 mm; Supplier 1: Digi-Key; Supplier Part Number 1: LTC1706EMS-63#PBF-ND; RoHS: TRUE; Mounting Technology: Surface Mount; ComponentLink1Description: Manufacturer URL; ComponentLink1URL: http://www.linear.com/; ComponentLink2Description: Datasheet; ComponentLink2URL: http://cds.linear.com/docs/en/datasheet/170663f.pdf; ComponentLink3Description: Package Specification; ComponentLink3URL: http://cds.linear.com/docs/en/packaging/05081661_F_MS.pdf
footprint LT-MS-10_N (SOP, 10-Leads, Body 3.1x3.1mm, Pitch 0.5mm, IPC Medium Density)
footprint LT-MS-10_L (SOP, 10-Leads, Body 3.1x3.1mm, Pitch 0.5mm, IPC High Density)
footprint LT-MS-10_M (SOP, 10-Leads, Body 3.1x3.1mm, Pitch 0.5mm, IPC Low Density)
pins: 1 VID0 (in), 2 VID1 (in), 3 VID2 (in), 4 VID3 (in), 5 VCC (power) "Power Supply Voltage. Range from 2.7V to 5.5V.", 6 SENSE "Regulator Output Voltage. Connect directly to regulator output sense node.", 7 VID4 (in), 8 NC "No Connect", 9 GND (power) "Ground. Connect to regulator signal ground", 10 FB "Feedback Input."

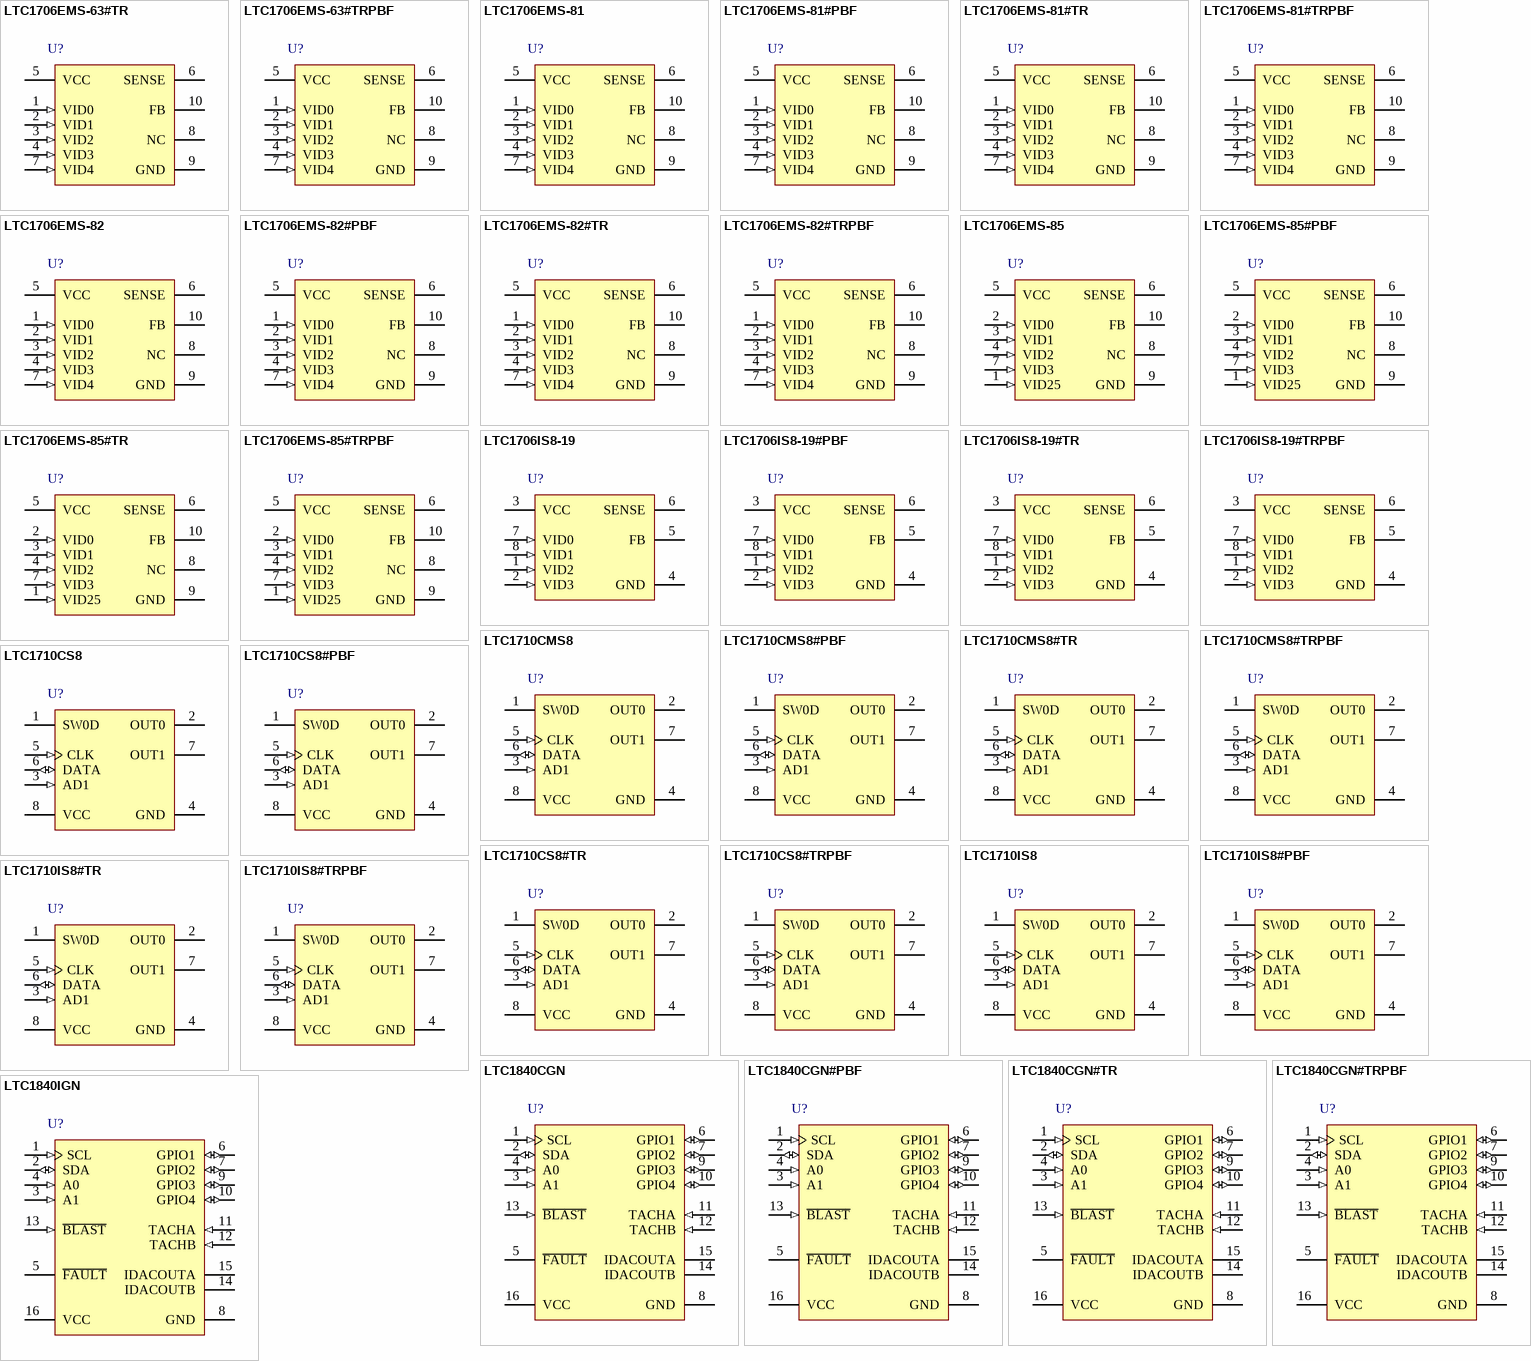
[diagram p11: symbols LTC1706EMS-63#TR to LTC1840IGN]

## LTC1706EMS-63#TR
designator U?
5-Bit VID Voltage Programmer for Sun CPUs, 2.7 to 5.5 V Vin, 10-pin SOP (MS-10), -40 to 85 degC, Tape and Reel; Manufacturer: Linear Technology; PartNumber: LTC1706EMS-63#TR; PackageVersion: Rev. E, 06/2010; PackageReference: MS-10; PackageDescription: 10-Pin Plastic MSOP, Body 3 x 3 mm, Pitch 0.5 mm; Packing: Tape and Reel; RoHS: FALSE; Mounting Technology: Surface Mount; ComponentLink1Description: Manufacturer URL; ComponentLink1URL: http://www.linear.com/; ComponentLink2Description: Datasheet; ComponentLink2URL: http://cds.linear.com/docs/en/datasheet/170663f.pdf; ComponentLink3Description: Package Specification; ComponentLink3URL: http://cds.linear.com/docs/en/packaging/05081661_F_MS.pdf
footprint LT-MS-10_N (SOP, 10-Leads, Body 3.1x3.1mm, Pitch 0.5mm, IPC Medium Density)
footprint LT-MS-10_L (SOP, 10-Leads, Body 3.1x3.1mm, Pitch 0.5mm, IPC High Density)
footprint LT-MS-10_M (SOP, 10-Leads, Body 3.1x3.1mm, Pitch 0.5mm, IPC Low Density)
pins: 1 VID0 (in), 2 VID1 (in), 3 VID2 (in), 4 VID3 (in), 5 VCC (power) "Power Supply Voltage. Range from 2.7V to 5.5V.", 6 SENSE "Regulator Output Voltage. Connect directly to regulator output sense node.", 7 VID4 (in), 8 NC "No Connect", 9 GND (power) "Ground. Connect to regulator signal ground", 10 FB "Feedback Input."

## LTC1706EMS-63#TRPBF
designator U?
5-Bit VID Voltage Programmer for Sun CPUs, 2.7 to 5.5 V Vin, 10-pin SOP (MS-10), -40 to 85 degC, Pb-Free, Tape and Reel; Manufacturer: Linear Technology; PartNumber: LTC1706EMS-63#TRPBF; PackageVersion: Rev. E, 06/2010; PackageReference: MS-10; PackageDescription: 10-Pin Plastic MSOP, Body 3 x 3 mm, Pitch 0.5 mm; Supplier 1: Digi-Key; Supplier Part Number 1: LTC1706EMS-63#TRPBF-ND; Packing: Tape and Reel; RoHS: TRUE; Mounting Technology: Surface Mount; ComponentLink1Description: Manufacturer URL; ComponentLink1URL: http://www.linear.com/; ComponentLink2Description: Datasheet; ComponentLink2URL: http://cds.linear.com/docs/en/datasheet/170663f.pdf; ComponentLink3Description: Package Specification; ComponentLink3URL: http://cds.linear.com/docs/en/packaging/05081661_F_MS.pdf
footprint LT-MS-10_N (SOP, 10-Leads, Body 3.1x3.1mm, Pitch 0.5mm, IPC Medium Density)
footprint LT-MS-10_L (SOP, 10-Leads, Body 3.1x3.1mm, Pitch 0.5mm, IPC High Density)
footprint LT-MS-10_M (SOP, 10-Leads, Body 3.1x3.1mm, Pitch 0.5mm, IPC Low Density)
pins: 1 VID0 (in), 2 VID1 (in), 3 VID2 (in), 4 VID3 (in), 5 VCC (power) "Power Supply Voltage. Range from 2.7V to 5.5V.", 6 SENSE "Regulator Output Voltage. Connect directly to regulator output sense node.", 7 VID4 (in), 8 NC "No Connect", 9 GND (power) "Ground. Connect to regulator signal ground", 10 FB "Feedback Input."

## LTC1706EMS-81
designator U?
5-Bit Desktop VID Voltage Programmer, 2.7 to 5.5 V Vin, 10-pin SOP (MS-10), -40 to 85 degC; Manufacturer: Linear Technology; PartNumber: LTC1706EMS-81; PackageVersion: Rev. E, 06/2010; PackageReference: MS-10; PackageDescription: 10-Pin Plastic MSOP, Body 3 x 3 mm, Pitch 0.5 mm; Supplier 1: Digi-Key; Supplier Part Number 1: LTC1706EMS-81-ND; RoHS: FALSE; Mounting Technology: Surface Mount; ComponentLink1Description: Manufacturer URL; ComponentLink1URL: http://www.linear.com/; ComponentLink2Description: Datasheet; ComponentLink2URL: http://cds.linear.com/docs/en/datasheet/170681f.pdf; ComponentLink3Description: Package Specification; ComponentLink3URL: http://cds.linear.com/docs/en/packaging/05081661_F_MS.pdf
footprint LT-MS-10_N (SOP, 10-Leads, Body 3.1x3.1mm, Pitch 0.5mm, IPC Medium Density)
footprint LT-MS-10_L (SOP, 10-Leads, Body 3.1x3.1mm, Pitch 0.5mm, IPC High Density)
footprint LT-MS-10_M (SOP, 10-Leads, Body 3.1x3.1mm, Pitch 0.5mm, IPC Low Density)
pins: 1 VID0 (in), 2 VID1 (in), 3 VID2 (in), 4 VID3 (in), 5 VCC (power) "Power Supply Voltage. Range from 2.7V to 5.5V.", 6 SENSE "Regulator Output Voltage. Connect directly to regulator output sense node.", 7 VID4 (in), 8 NC "No Connect", 9 GND (power) "Ground. Connect to regulator signal ground", 10 FB "Feedback Input."